# EAGLE library part EEPROM_32K_8 (library ProjectComponent)
32k x 8bit ROM Jeremiah Ohlman
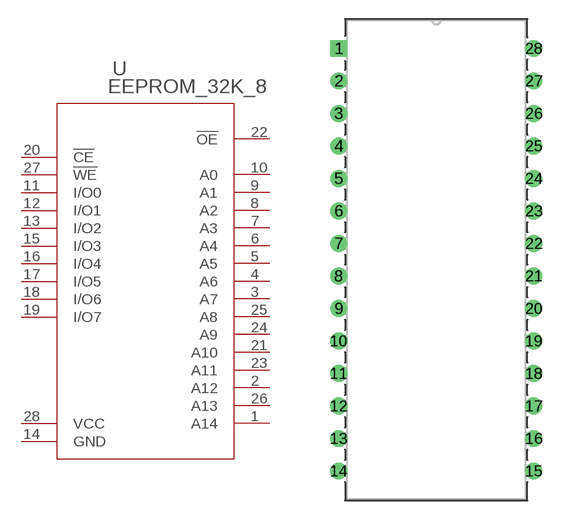
[diagram p11: symbol with the pads of 28_P6; footprint 28_P6]

Designator prefix U

## EEPROM_32K_8  [28_P6]
1  A14  pas
2  A12  pas
3  A7  pas
4  A6  pas
5  A5  pas
6  A4  pas
7  A3  pas
8  A2  pas
9  A1  pas
10  A0  pas
11  I/O0
12  I/O1
13  I/O2
14  GND  pwr
15  I/O3
16  I/O4
17  I/O5
18  I/O6
19  I/O7
20  !CE  pas
21  A10  pas
22  !OE  out
23  A11  pas
24  A9  pas
25  A8  pas
26  A13  pas
27  !WE  pas
28  VCC  pwr

## Footprint 28_P6 (pad centres in mm)
drill 0.813 pad 1.321 square: 1 -16.24,32.02
drill 0.813 pad 1.321: 2 -16.24,29.48; 3 -16.24,26.94; 4 -16.24,24.4; 5 -16.24,21.86; 6 -16.24,19.32; 7 -16.24,16.78; 8 -16.24,14.24; 9 -16.24,11.7; 10 -16.24,9.16; 11 -16.24,6.62; 12 -16.24,4.08; 13 -16.24,1.54; 14 -16.24,-1; 15 -1,-1; 16 -1,1.54; 17 -1,4.08; 18 -1,6.62; 19 -1,9.16; 20 -1,11.7; 21 -1,14.24; 22 -1,16.78; 23 -1,19.32; 24 -1,21.86; 25 -1,24.4; 26 -1,26.94; 27 -1,29.48; 28 -1,32.02